# Altium schematic symbol library Inductors.SchLib: 3 symbols
Pins are listed as number, name and electrical type; pins without a type are passive.

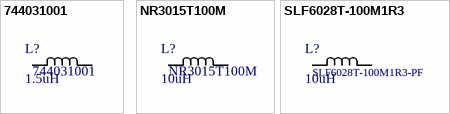
[diagram p0: symbols 744031001 to SLF6028T-100M1R3]

## 744031001
designator L?, comment 1.5uH  Manufacturer Part Number 1: 744031001
1.5µH Shielded Wirewound Inductor 1.75A 47 mOhm Max; Manufacturer 1: Wurth
footprint INDP3838X18N (Precision Wire Wound Inductor, 2-Leads, Body 3.80x3.80mm, IPC Medium Density)
pins: 1, 2

## NR3015T100M
designator L?, comment 10uH  Manufacturer Part Number 1: NR3015T100M
Manufacturer 1: Taiyo Yuden
footprint IND_TAIYO_NR3015
pins: 1, 2

## SLF6028T-100M1R3
designator L?, comment 10uH  Manufacturer Part Number 1: SLF6028T-100M1R3-PF
Vendor: TDK; Built_By: EMA_UL_Team; Copyright: Copyright (C) 2018 Accelerated Designs. All rights reserved; Manufacturer 1: TDK
footprint INDP6060X30N (Precision Wire Wound Inductor, 2-Leads, Body 6.00x6.00mm, IPC Medium Density)
pins: 1, 2